# EAGLE library part MFRC52201HN1,157 (library mfrc522)
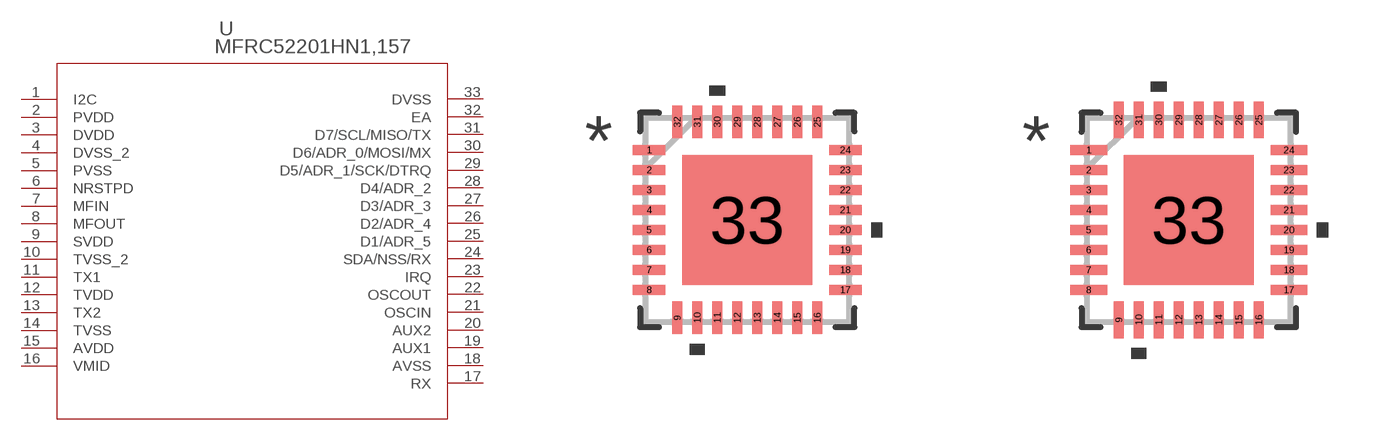
[diagram p0: symbol with the pads of HVQFN32_SOT617-1_NXP; footprints HVQFN32_SOT617-1_NXP, HVQFN32_SOT617-1_NXP-M]

Designator prefix U

## MFRC52201HN1,157HVQFN32_SOT617-1_NXP (COPYRIGHT: Copyright (C) 2024 Ultra Librarian. All rights reserved.; MANUFACTURER_PART_NUMBER: MFRC52201HN1,157; MFR_NAME: NXP)  [HVQFN32_SOT617-1_NXP]
1  I2C  in
2  PVDD  pwr
3  DVDD  pwr
4  DVSS_2  pas
5  PVSS  pas
6  NRSTPD  in
7  MFIN  in
8  MFOUT  out
9  SVDD  pwr
10  TVSS_2  pas
11  TX1  out
12  TVDD  pwr
13  TX2  out
14  TVSS  pas
15  AVDD  pwr
16  VMID  pwr
17  RX  in
18  AVSS  pas
19  AUX1  out
20  AUX2  out
21  OSCIN  in
22  OSCOUT  out
23  IRQ  out
24  SDA/NSS/RX
25  D1/ADR_5
26  D2/ADR_4
27  D3/ADR_3
28  D4/ADR_2
29  D5/ADR_1/SCK/DTRQ
30  D6/ADR_0/MOSI/MX
31  D7/SCL/MISO/TX
32  EA  in
33  DVSS  pas

## MFRC52201HN1,157HVQFN32_SOT617-1_NXP-M (COPYRIGHT: Copyright (C) 2024 Ultra Librarian. All rights reserved.; MANUFACTURER_PART_NUMBER: MFRC52201HN1,157; MFR_NAME: NXP)  [HVQFN32_SOT617-1_NXP-M]
Pads as for HVQFN32_SOT617-1_NXP

## MFRC52201HN1,157HVQFN32_SOT617-1_NXP-L (COPYRIGHT: Copyright (C) 2024 Ultra Librarian. All rights reserved.; MANUFACTURER_PART_NUMBER: MFRC52201HN1,157; MFR_NAME: NXP)  [HVQFN32_SOT617-1_NXP-L]
Pads as for HVQFN32_SOT617-1_NXP

## Footprint HVQFN32_SOT617-1_NXP (pad centres in mm)
smd 0.813 x 0.254: 1 -2.451,1.75; 2 -2.451,1.25; 3 -2.451,0.75; 4 -2.451,0.25; 5 -2.451,-0.25; 6 -2.451,-0.75; 7 -2.451,-1.25; 8 -2.451,-1.75; 17 2.451,-1.75; 18 2.451,-1.25; 19 2.451,-0.75; 20 2.451,-0.25; 21 2.451,0.25; 22 2.451,0.75; 23 2.451,1.25; 24 2.451,1.75
smd 0.254 x 0.813: 9 -1.75,-2.451; 10 -1.25,-2.451; 11 -0.75,-2.451; 12 -0.25,-2.451; 13 0.25,-2.451; 14 0.75,-2.451; 15 1.25,-2.451; 16 1.75,-2.451; 25 1.75,2.451; 26 1.25,2.451; 27 0.75,2.451; 28 0.25,2.451; 29 -0.25,2.451; 30 -0.75,2.451; 31 -1.25,2.451; 32 -1.75,2.451
smd 3.251 x 3.251: 33 0,0

## Footprint HVQFN32_SOT617-1_NXP-M (pad centres in mm)
smd 0.914 x 0.254: 1 -2.502,1.75; 2 -2.502,1.25; 3 -2.502,0.75; 4 -2.502,0.25; 5 -2.502,-0.25; 6 -2.502,-0.75; 7 -2.502,-1.25; 8 -2.502,-1.75; 17 2.502,-1.75; 18 2.502,-1.25; 19 2.502,-0.75; 20 2.502,-0.25; 21 2.502,0.25; 22 2.502,0.75; 23 2.502,1.25; 24 2.502,1.75
smd 0.254 x 0.914: 9 -1.75,-2.502; 10 -1.25,-2.502; 11 -0.75,-2.502; 12 -0.25,-2.502; 13 0.25,-2.502; 14 0.75,-2.502; 15 1.25,-2.502; 16 1.75,-2.502; 25 1.75,2.502; 26 1.25,2.502; 27 0.75,2.502; 28 0.25,2.502; 29 -0.25,2.502; 30 -0.75,2.502; 31 -1.25,2.502; 32 -1.75,2.502
smd 3.251 x 3.251: 33 0,0

## Footprint HVQFN32_SOT617-1_NXP-L (pad centres in mm)
smd 0.711 x 0.254: 1 -2.4,1.75; 2 -2.4,1.25; 3 -2.4,0.75; 4 -2.4,0.25; 5 -2.4,-0.25; 6 -2.4,-0.75; 7 -2.4,-1.25; 8 -2.4,-1.75; 17 2.4,-1.75; 18 2.4,-1.25; 19 2.4,-0.75; 20 2.4,-0.25; 21 2.4,0.25; 22 2.4,0.75; 23 2.4,1.25; 24 2.4,1.75
smd 0.254 x 0.711: 9 -1.75,-2.4; 10 -1.25,-2.4; 11 -0.75,-2.4; 12 -0.25,-2.4; 13 0.25,-2.4; 14 0.75,-2.4; 15 1.25,-2.4; 16 1.75,-2.4; 25 1.75,2.4; 26 1.25,2.4; 27 0.75,2.4; 28 0.25,2.4; 29 -0.25,2.4; 30 -0.75,2.4; 31 -1.25,2.4; 32 -1.75,2.4
smd 3.251 x 3.251: 33 0,0